# Altium schematic symbol library Analog Devices Amplifiers and Linear Comparators.SchLib: 160 symbols (part 6 of 9)
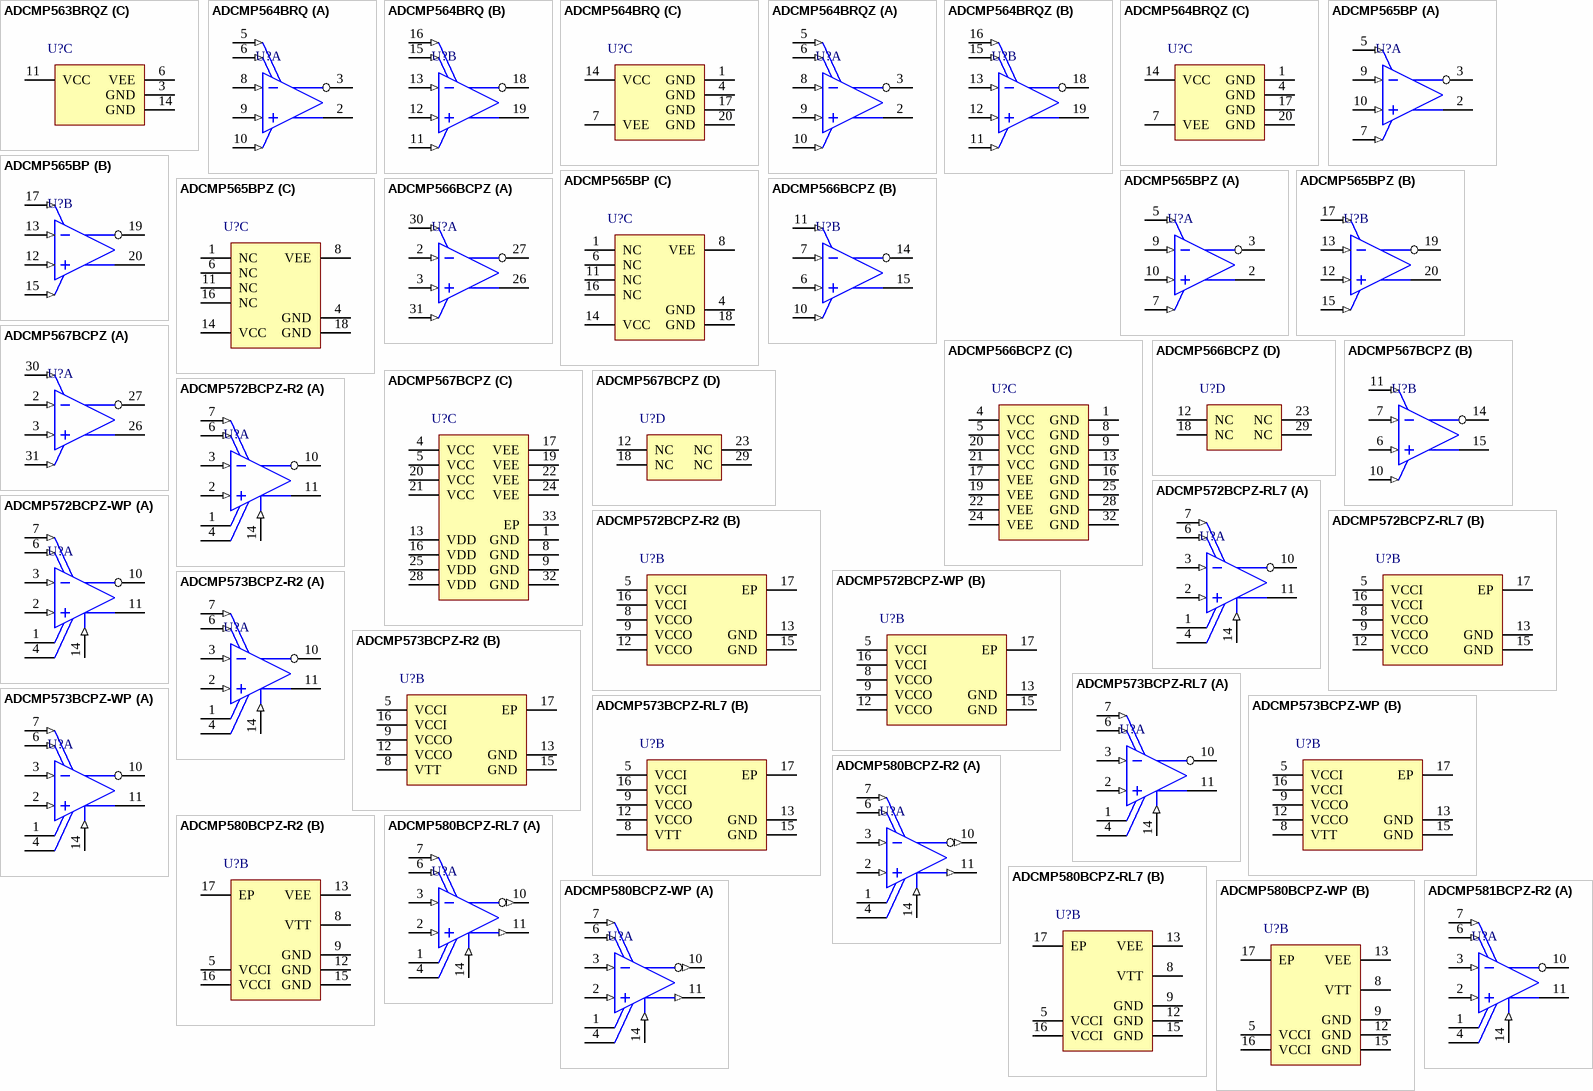
[diagram p12: symbols ADCMP563BRQZ to ADCMP581BCPZ-R2]

## ADCMP573BCPZ-RL7
designator U?
Ultrafast Single-Supply SiGe Comparator, 3.3 to 5 V, 150 ps Delay, Industrial, 16-pin QFN (CP-16-2), Reel; Manufacturer: Analog Devices; PartNumber: ADCMP573BCPZ-RL7; Input Range (V): -0.5 to VCCI+0.5; Supply Current: 3.3, 5; Voltage Supply (V): 3.3 to 5; DatasheetVersion: Rev. A; PackageVersion: Jan-05; PackageReference: CP-16-2; PackageDescription: 16-Pin Lead Frame Chip Scale Package, Body 3 x 3 mm, Pitch 0.5 mm; Supplier 1: Digi-Key; Supplier Part Number 1: ADCMP573BCPZ-RL7-ND; Supplier 2: Mouser; Supplier Part Number 2: 584-ADCMP573BCPZ-R7; Packing: Reel; Mounting Technology: Surface Mount; Code_JEDEC: MO-220-VEED-2; ComponentLink1Description: Manufacturer URL; ComponentLink1URL: http://www.analog.com/en/index.html; ComponentLink2Description: Datasheet; ComponentLink2URL: http://www.analog.com/static/imported-files/data_sheets/ADCMP572_573.pdf; ComponentLink3Description: Package Specification; ComponentLink3URL: http:/www.analog.com/static/imported-files/packages/PKG_PDF/LFCSP(CP)/CP_16_2.pdf; ComponentLink4Description: URL Link1; ComponentLink4URL: Product URL:http://www.analog.com/en/special-linear-functions/comparators/adcmp573/products/product.html
footprint ADI-CP-16-2_N (QFN, 16-Leads, Body 3x3mm, Pitch 0.5mm, Thermal Pad 1.3x1.3mm, IPC Medium Density)
footprint ADI-CP-16-2_L (QFN, 16-Leads, Body 3x3mm, Pitch 0.5mm, Thermal Pad 1.3x1.3mm, IPC High Density)
footprint ADI-CP-16-2_M (QFN, 16-Leads, Body 3x3mm, Pitch 0.5mm, Thermal Pad 1.3x1.3mm, IPC Low Density)
part A pins: 1 VTP "Termination Resistor Return Pin for VP Input.", 2 VP (in) "Noninverting Analog Input.", 3 VN (in) "Inverting Analog Input.", 4 VTN "Termination Resistor Return Pin for VN Input.", 6 ~{LE} (in) "Latch Enable Input Pin, Inverting Side.   In compare mode (L\E\ = low), the output tracks changes at the input of the comparator.   In latch mode (L\E\ = high), the output reflects the input state just prior to the (See Datasheet)", 7 LE (in) "Latch Enable Input Pin, Noninverting Side.   In compare mode (LE = high), the output tracks changes at the input of the comparator.   In latch mode (LE = low), the output reflects the input state just prior to the (See Datasheet)", 10 ~{Q} (oe) "Inverting Output. Q\ is at logic low if the analog voltage at the noninverting input, VP, is greater than the  analog voltage at the inverting input, VN, provided the comparator is in compare mode. See the LE/L\E\ (See Datasheet)", 11 Q (oe) "Noninverting Output. Q is at logic high if the analog voltage at the noninverting input VP is greater  than the analog voltage at the inverting input, VN, provided the comparator is in compare mode.   See the LE/L\E\ (See Datasheet)", 14 HYS (in) "Hysteresis Control Pin. Leave this pin disconnected for zero hysteresis. Connect to GND with a suitably  sized resistor to add the desired amount of hysteresis. Refer to Figure 7 for proper sizing of RHYS hysteresis control (See Datasheet)"
part B pins: 5 VCCI (power) "Positive Supply Voltage for Input Stage.", 8 VTT (power) "Termination Return Pin for the LE/L\E\ Input Pins.For the ADCMP573 (RSPECL output stage), this pin should normally be connected to the VCCO - 2 V termination potential.", 9 VCCO (power) "Positive Supply Voltage for the CML/RSPECL Output Stage.", 12 VCCO (power) "Positive Supply Voltage for the CML/RSPECL Output Stage.", 13 GND (power) "Ground.", 15 GND (power) "Ground.", 16 VCCI (power) "Positive Supply Voltage for Input Stage.", 17 EP "The metallic back surface of the package is not electrically connected to any part of the circuit, and it can be left floating for best electrical isolation between the package handle and the substrate of the die. However, (See Datasheet)"

## ADCMP573BCPZ-WP
designator U?
Ultrafast Single-Supply SiGe Comparator, 3.3 to 5 V, 150 ps Delay, Industrial, 16-pin QFN (CP-16-2), Tray; Manufacturer: Analog Devices; PartNumber: ADCMP573BCPZ-WP; Input Range (V): -0.5 to VCCI+0.5; Supply Current: 3.3, 5; Voltage Supply (V): 3.3 to 5; DatasheetVersion: Rev. A; PackageVersion: Jan-05; PackageReference: CP-16-2; PackageDescription: 16-Pin Lead Frame Chip Scale Package, Body 3 x 3 mm, Pitch 0.5 mm; Supplier 1: Digi-Key; Supplier Part Number 1: ADCMP573BCPZ-WP-ND; Supplier 2: Mouser; Supplier Part Number 2: 584-ADCMP573BCPZ-WP; Packing: Tray; Mounting Technology: Surface Mount; Code_JEDEC: MO-220-VEED-2; ComponentLink1Description: Manufacturer URL; ComponentLink1URL: http://www.analog.com/en/index.html; ComponentLink2Description: Datasheet; ComponentLink2URL: http://www.analog.com/static/imported-files/data_sheets/ADCMP572_573.pdf; ComponentLink3Description: Package Specification; ComponentLink3URL: http:/www.analog.com/static/imported-files/packages/PKG_PDF/LFCSP(CP)/CP_16_2.pdf; ComponentLink4Description: URL Link1; ComponentLink4URL: Product URL:http://www.analog.com/en/special-linear-functions/comparators/adcmp573/products/product.html
footprint ADI-CP-16-2_N (QFN, 16-Leads, Body 3x3mm, Pitch 0.5mm, Thermal Pad 1.3x1.3mm, IPC Medium Density)
footprint ADI-CP-16-2_L (QFN, 16-Leads, Body 3x3mm, Pitch 0.5mm, Thermal Pad 1.3x1.3mm, IPC High Density)
footprint ADI-CP-16-2_M (QFN, 16-Leads, Body 3x3mm, Pitch 0.5mm, Thermal Pad 1.3x1.3mm, IPC Low Density)
part A pins: 1 VTP "Termination Resistor Return Pin for VP Input.", 2 VP (in) "Noninverting Analog Input.", 3 VN (in) "Inverting Analog Input.", 4 VTN "Termination Resistor Return Pin for VN Input.", 6 ~{LE} (in) "Latch Enable Input Pin, Inverting Side.   In compare mode (L\E\ = low), the output tracks changes at the input of the comparator.   In latch mode (L\E\ = high), the output reflects the input state just prior to the (See Datasheet)", 7 LE (in) "Latch Enable Input Pin, Noninverting Side.   In compare mode (LE = high), the output tracks changes at the input of the comparator.   In latch mode (LE = low), the output reflects the input state just prior to the (See Datasheet)", 10 ~{Q} (oe) "Inverting Output. Q\ is at logic low if the analog voltage at the noninverting input, VP, is greater than the  analog voltage at the inverting input, VN, provided the comparator is in compare mode. See the LE/L\E\ (See Datasheet)", 11 Q (oe) "Noninverting Output. Q is at logic high if the analog voltage at the noninverting input VP is greater  than the analog voltage at the inverting input, VN, provided the comparator is in compare mode.   See the LE/L\E\ (See Datasheet)", 14 HYS (in) "Hysteresis Control Pin. Leave this pin disconnected for zero hysteresis. Connect to GND with a suitably  sized resistor to add the desired amount of hysteresis. Refer to Figure 7 for proper sizing of RHYS hysteresis control (See Datasheet)"
part B pins: 5 VCCI (power) "Positive Supply Voltage for Input Stage.", 8 VTT (power) "Termination Return Pin for the LE/L\E\ Input Pins.For the ADCMP573 (RSPECL output stage), this pin should normally be connected to the VCCO - 2 V termination potential.", 9 VCCO (power) "Positive Supply Voltage for the CML/RSPECL Output Stage.", 12 VCCO (power) "Positive Supply Voltage for the CML/RSPECL Output Stage.", 13 GND (power) "Ground.", 15 GND (power) "Ground.", 16 VCCI (power) "Positive Supply Voltage for Input Stage.", 17 EP "The metallic back surface of the package is not electrically connected to any part of the circuit, and it can be left floating for best electrical isolation between the package handle and the substrate of the die. However, (See Datasheet)"

## ADCMP580BCPZ-R2
designator U?
Ultrafast SiGe Voltage Comparator, + / - 5 V, 180 ps Delay, Industrial, 16-pin QFN (CP-16-3), Reel; Manufacturer: Analog Devices; PartNumber: ADCMP580BCPZ-R2; Input Range (V): -2 to 3; Voltage Supply (V): 5 to -5; DatasheetVersion: Rev. A; PackageReference: CP-16-3; PackageDescription: 16-Pin Lead Frame Chip Scale Package, Body 3 x 3 mm, Pitch 0.5 mm; Supplier 1: Digi-Key; Supplier Part Number 1: ADCMP580BCPZ-R2-ND; Supplier 2: Mouser; Supplier Part Number 2: 584-ADCMP580BCPZ-R2; Packing: Reel; Mounting Technology: Surface Mount; Code_JEDEC: MO-220-VEED-2; ComponentLink1Description: Manufacturer URL; ComponentLink1URL: http://www.analog.com/en/index.html; ComponentLink2Description: Datasheet; ComponentLink2URL: http://www.analog.com/static/imported-files/data_sheets/ADCMP580_581_582.pdf; ComponentLink3Description: Package Specification; ComponentLink3URL: http://www.analog.com/static/imported-files/packages/PKG_PDF/LFCSP(CP)/CP_16_3.pdf; ComponentLink4Description: URL Link1; ComponentLink4URL: Product URL:http://www.analog.com/en/special-linear-functions/comparators/adcmp580/products/product.html
footprint ADI-CP-16-3_N (QFN, 16-Leads, Body 3x3mm, Pitch 0.5mm, Thermal Pad 1.5x1.5mm, IPC Medium Density)
footprint ADI-CP-16-3_L (QFN, 16-Leads, Body 3x3mm, Pitch 0.5mm, Thermal Pad 1.5x1.5mm, IPC High Density)
footprint ADI-CP-16-3_M (QFN, 16-Leads, Body 3x3mm, Pitch 0.5mm, Thermal Pad 1.5x1.5mm, IPC Low Density)
part A pins: 1 VTP "Termination Resistor Return Pin for VP Input.", 2 VP (in) "Noninverting Analog Input.", 3 VN (in) "Inverting Analog Input.", 4 VTN "Termination Resistor Return Pin for VN Input.", 6 ~{LE} (in) "Latch Enable Input Pin, Inverting Side. In compare mode (L\E\ = low), the output tracks changes at the input of the comparator. In latch mode (L\E\ = high), the output reflects the input state just prior to the comparator (See Datasheet)", 7 LE (in) "Latch Enable Input Pin, Noninverting Side. In compare mode (LE = high), the output tracks changes at the input of the comparator. In latch mode (LE = low), the output reflects the input state just prior to the comparator (See Datasheet)", 10 ~{Q} (out) "Inverting Output. Q\ is logic low if the analog voltage at the noninverting input, VP, is greater than the analog voltage at the inverting input, VN, provided that the comparator is in compare mode. See the LE/L\E\ (See Datasheet)", 11 Q (out) "Noninverting Output. Q is logic high if the analog voltage at the noninverting input, VP, is greater than the analog voltage at the inverting input, VN, provided that the comparator is in compare mode. See the LE/L\E\ (See Datasheet)", 14 HYS (in) "Hysteresis Control. Leave this pin disconnected for zero hysteresis. Connect this pin to the VEE supply with a suitably sized resistor to add the desired amount of hysteresis. Refer to Figure 9 for proper sizing of the HYS (See Datasheet)"
part B pins: 5 VCCI (power) "Positive Supply Voltage.", 8 VTT (power) "Termination Return Pin for the LE/L\E\ Input Pins. For the ADCMP580 (CML output stage), this pin should be connected to the GND ground.", 9 GND (power) "Digital Ground Pin. For the ADCMP580/ADCMP581, this pin should be connected to the GND pin.", 12 GND (power) "Digital Ground Pin. For the ADCMP580/ADCMP581, this pin should be connected to the GND pin.", 13 VEE (power) "Negative Power Supply.", 15 GND (power) "Analog Ground.", 16 VCCI (power) "Positive Supply Voltage.", 17 EP "The metallic back surface of the package is not electrically connected to any part of the circuit. It can be left floating for optimal electrical isolation between the package handle and the substrate of the die. It can also (See Datasheet)"

## ADCMP580BCPZ-RL7
designator U?
Ultrafast SiGe Voltage Comparator, + / - 5 V, 180 ps Delay, Industrial, 16-pin QFN (CP-16-3), Reel; Manufacturer: Analog Devices; PartNumber: ADCMP580BCPZ-RL7; Input Range (V): -2 to 3; Voltage Supply (V): 5 to -5; DatasheetVersion: Rev. A; PackageReference: CP-16-3; PackageDescription: 16-Pin Lead Frame Chip Scale Package, Body 3 x 3 mm, Pitch 0.5 mm; Supplier 1: Digi-Key; Supplier Part Number 1: ADCMP580BCPZ-RL7-ND; Supplier 2: Mouser; Supplier Part Number 2: 584-ADCMP580BCPZ-R7; Packing: Reel; Mounting Technology: Surface Mount; Code_JEDEC: MO-220-VEED-2; ComponentLink1Description: Manufacturer URL; ComponentLink1URL: http://www.analog.com/en/index.html; ComponentLink2Description: Datasheet; ComponentLink2URL: http://www.analog.com/static/imported-files/data_sheets/ADCMP580_581_582.pdf; ComponentLink3Description: Package Specification; ComponentLink3URL: http://www.analog.com/static/imported-files/packages/PKG_PDF/LFCSP(CP)/CP_16_3.pdf; ComponentLink4Description: URL Link1; ComponentLink4URL: Product URL:http://www.analog.com/en/special-linear-functions/comparators/adcmp580/products/product.html
footprint ADI-CP-16-3_N (QFN, 16-Leads, Body 3x3mm, Pitch 0.5mm, Thermal Pad 1.5x1.5mm, IPC Medium Density)
footprint ADI-CP-16-3_L (QFN, 16-Leads, Body 3x3mm, Pitch 0.5mm, Thermal Pad 1.5x1.5mm, IPC High Density)
footprint ADI-CP-16-3_M (QFN, 16-Leads, Body 3x3mm, Pitch 0.5mm, Thermal Pad 1.5x1.5mm, IPC Low Density)
part A pins: 1 VTP "Termination Resistor Return Pin for VP Input.", 2 VP (in) "Noninverting Analog Input.", 3 VN (in) "Inverting Analog Input.", 4 VTN "Termination Resistor Return Pin for VN Input.", 6 ~{LE} (in) "Latch Enable Input Pin, Inverting Side. In compare mode (L\E\ = low), the output tracks changes at the input of the comparator. In latch mode (L\E\ = high), the output reflects the input state just prior to the comparator (See Datasheet)", 7 LE (in) "Latch Enable Input Pin, Noninverting Side. In compare mode (LE = high), the output tracks changes at the input of the comparator. In latch mode (LE = low), the output reflects the input state just prior to the comparator (See Datasheet)", 10 ~{Q} (out) "Inverting Output. Q\ is logic low if the analog voltage at the noninverting input, VP, is greater than the analog voltage at the inverting input, VN, provided that the comparator is in compare mode. See the LE/L\E\ (See Datasheet)", 11 Q (out) "Noninverting Output. Q is logic high if the analog voltage at the noninverting input, VP, is greater than the analog voltage at the inverting input, VN, provided that the comparator is in compare mode. See the LE/L\E\ (See Datasheet)", 14 HYS (in) "Hysteresis Control. Leave this pin disconnected for zero hysteresis. Connect this pin to the VEE supply with a suitably sized resistor to add the desired amount of hysteresis. Refer to Figure 9 for proper sizing of the HYS (See Datasheet)"
part B pins: 5 VCCI (power) "Positive Supply Voltage.", 8 VTT (power) "Termination Return Pin for the LE/L\E\ Input Pins. For the ADCMP580 (CML output stage), this pin should be connected to the GND ground.", 9 GND (power) "Digital Ground Pin. For the ADCMP580/ADCMP581, this pin should be connected to the GND pin.", 12 GND (power) "Digital Ground Pin. For the ADCMP580/ADCMP581, this pin should be connected to the GND pin.", 13 VEE (power) "Negative Power Supply.", 15 GND (power) "Analog Ground.", 16 VCCI (power) "Positive Supply Voltage.", 17 EP "The metallic back surface of the package is not electrically connected to any part of the circuit. It can be left floating for optimal electrical isolation between the package handle and the substrate of the die. It can also (See Datasheet)"

## ADCMP580BCPZ-WP
designator U?
Ultrafast SiGe Voltage Comparator, + / - 5 V, 180 ps Delay, Industrial, 16-pin QFN (CP-16-3), Tray; Manufacturer: Analog Devices; PartNumber: ADCMP580BCPZ-WP; Input Range (V): -2 to 3; Voltage Supply (V): 5 to -5; DatasheetVersion: Rev. A; PackageReference: CP-16-3; PackageDescription: 16-Pin Lead Frame Chip Scale Package, Body 3 x 3 mm, Pitch 0.5 mm; Supplier 1: Digi-Key; Supplier Part Number 1: ADCMP580BCPZ-WP-ND; Supplier 2: Farnell; Supplier Part Number 2: 2312715; Supplier 3: Mouser; Supplier Part Number 3: 584-ADCMP580BCPZ-WP; Packing: Tray; Mounting Technology: Surface Mount; Code_JEDEC: MO-220-VEED-2; ComponentLink1Description: Manufacturer URL; ComponentLink1URL: http://www.analog.com/en/index.html; ComponentLink2Description: Datasheet; ComponentLink2URL: http://www.analog.com/static/imported-files/data_sheets/ADCMP580_581_582.pdf; ComponentLink3Description: Package Specification; ComponentLink3URL: http://www.analog.com/static/imported-files/packages/PKG_PDF/LFCSP(CP)/CP_16_3.pdf; ComponentLink4Description: URL Link1; ComponentLink4URL: Product URL:http://www.analog.com/en/special-linear-functions/comparators/adcmp580/products/product.html
footprint ADI-CP-16-3_N (QFN, 16-Leads, Body 3x3mm, Pitch 0.5mm, Thermal Pad 1.5x1.5mm, IPC Medium Density)
footprint ADI-CP-16-3_L (QFN, 16-Leads, Body 3x3mm, Pitch 0.5mm, Thermal Pad 1.5x1.5mm, IPC High Density)
footprint ADI-CP-16-3_M (QFN, 16-Leads, Body 3x3mm, Pitch 0.5mm, Thermal Pad 1.5x1.5mm, IPC Low Density)
part A pins: 1 VTP "Termination Resistor Return Pin for VP Input.", 2 VP (in) "Noninverting Analog Input.", 3 VN (in) "Inverting Analog Input.", 4 VTN "Termination Resistor Return Pin for VN Input.", 6 ~{LE} (in) "Latch Enable Input Pin, Inverting Side. In compare mode (L\E\ = low), the output tracks changes at the input of the comparator. In latch mode (L\E\ = high), the output reflects the input state just prior to the comparator (See Datasheet)", 7 LE (in) "Latch Enable Input Pin, Noninverting Side. In compare mode (LE = high), the output tracks changes at the input of the comparator. In latch mode (LE = low), the output reflects the input state just prior to the comparator (See Datasheet)", 10 ~{Q} (out) "Inverting Output. Q\ is logic low if the analog voltage at the noninverting input, VP, is greater than the analog voltage at the inverting input, VN, provided that the comparator is in compare mode. See the LE/L\E\ (See Datasheet)", 11 Q (out) "Noninverting Output. Q is logic high if the analog voltage at the noninverting input, VP, is greater than the analog voltage at the inverting input, VN, provided that the comparator is in compare mode. See the LE/L\E\ (See Datasheet)", 14 HYS (in) "Hysteresis Control. Leave this pin disconnected for zero hysteresis. Connect this pin to the VEE supply with a suitably sized resistor to add the desired amount of hysteresis. Refer to Figure 9 for proper sizing of the HYS (See Datasheet)"
part B pins: 5 VCCI (power) "Positive Supply Voltage.", 8 VTT (power) "Termination Return Pin for the LE/L\E\ Input Pins. For the ADCMP580 (CML output stage), this pin should be connected to the GND ground.", 9 GND (power) "Digital Ground Pin. For the ADCMP580/ADCMP581, this pin should be connected to the GND pin.", 12 GND (power) "Digital Ground Pin. For the ADCMP580/ADCMP581, this pin should be connected to the GND pin.", 13 VEE (power) "Negative Power Supply.", 15 GND (power) "Analog Ground.", 16 VCCI (power) "Positive Supply Voltage.", 17 EP "The metallic back surface of the package is not electrically connected to any part of the circuit. It can be left floating for optimal electrical isolation between the package handle and the substrate of the die. It can also (See Datasheet)"

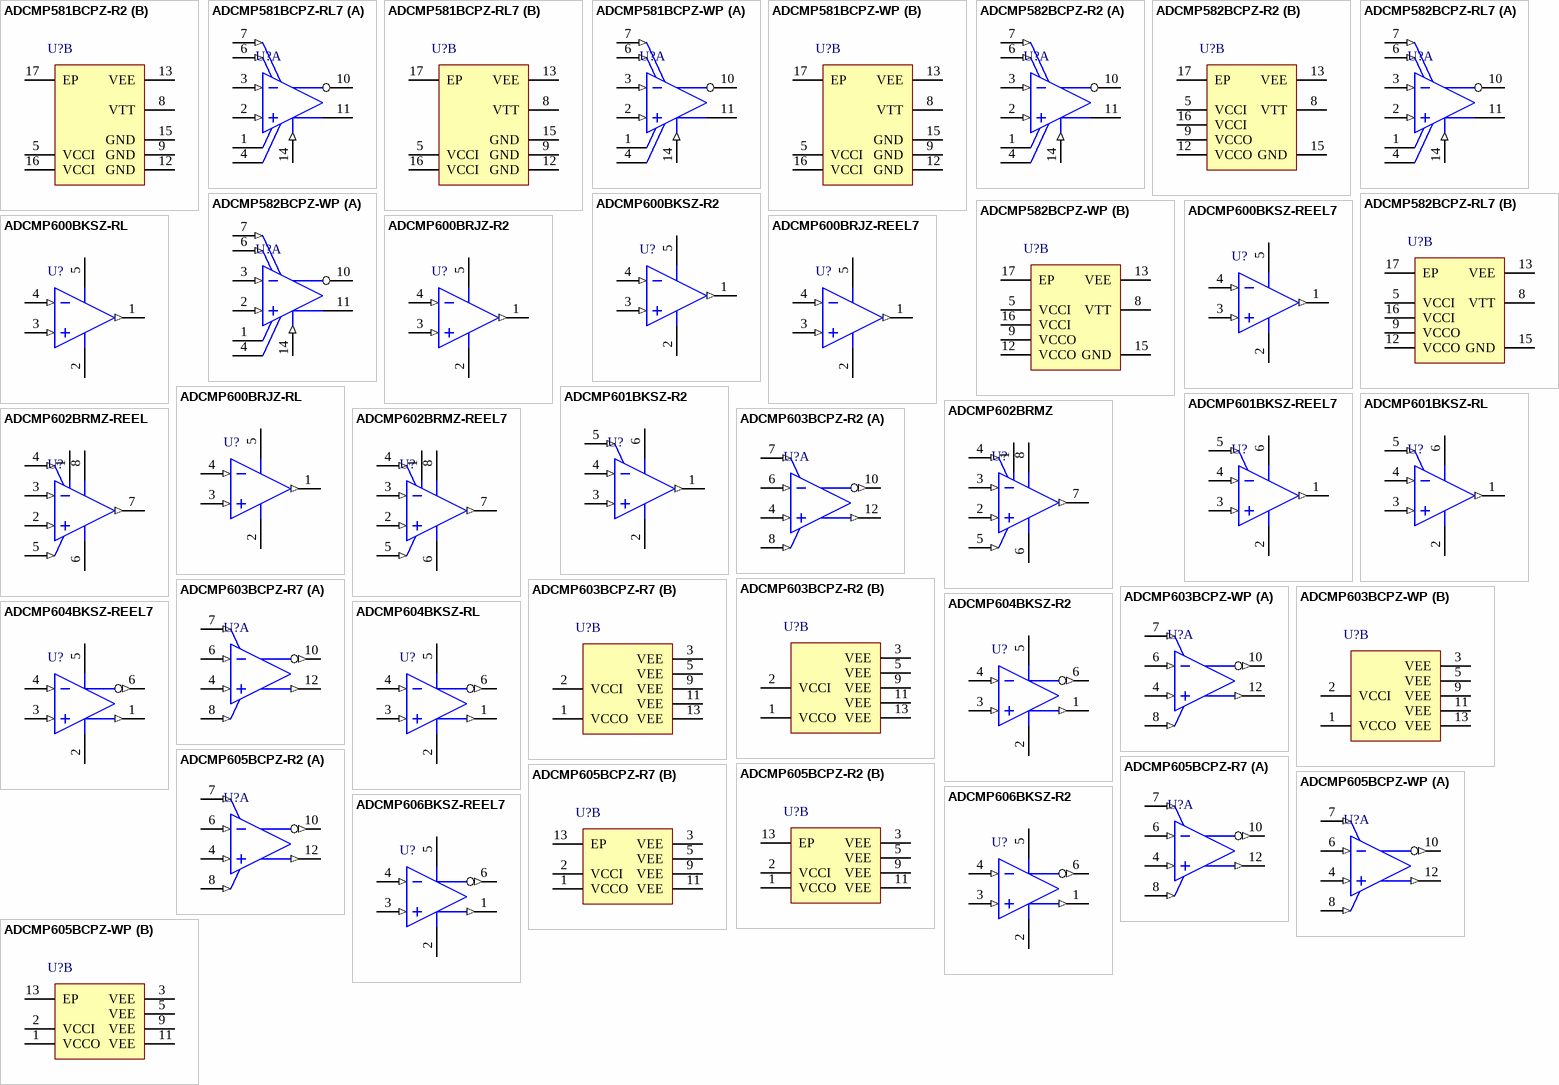
[diagram p5: symbols ADCMP581BCPZ-R2 to ADCMP606BKSZ-REEL7]

## ADCMP581BCPZ-R2
designator U?
Ultrafast SiGe Voltage Comparator, + / - 5 V, 180 ps Delay, Industrial, 16-pin QFN (CP-16-3), Reel; Manufacturer: Analog Devices; PartNumber: ADCMP581BCPZ-R2; Input Range (V): -2 to 3; Voltage Supply (V): 5 to -5; DatasheetVersion: Rev. A; PackageReference: CP-16-3; PackageDescription: 16-Pin Lead Frame Chip Scale Package, Body 3 x 3 mm, Pitch 0.5 mm; Supplier 1: Digi-Key; Supplier Part Number 1: ADCMP581BCPZ-R2-ND; Supplier 2: Mouser; Supplier Part Number 2: 584-ADCMP581BCPZ-R2; Packing: Reel; Mounting Technology: Surface Mount; Code_JEDEC: MO-220-VEED-2; ComponentLink1Description: Manufacturer URL; ComponentLink1URL: http://www.analog.com/en/index.html; ComponentLink2Description: Datasheet; ComponentLink2URL: http://www.analog.com/static/imported-files/data_sheets/ADCMP580_581_582.pdf; ComponentLink3Description: Package Specification; ComponentLink3URL: http://www.analog.com/static/imported-files/packages/PKG_PDF/LFCSP(CP)/CP_16_3.pdf; ComponentLink4Description: URL Link1; ComponentLink4URL: Product URL:http://www.analog.com/en/special-linear-functions/comparators/adcmp581/products/product.html
footprint ADI-CP-16-3_N (QFN, 16-Leads, Body 3x3mm, Pitch 0.5mm, Thermal Pad 1.5x1.5mm, IPC Medium Density)
footprint ADI-CP-16-3_L (QFN, 16-Leads, Body 3x3mm, Pitch 0.5mm, Thermal Pad 1.5x1.5mm, IPC High Density)
footprint ADI-CP-16-3_M (QFN, 16-Leads, Body 3x3mm, Pitch 0.5mm, Thermal Pad 1.5x1.5mm, IPC Low Density)
part A pins: 1 VTP "Termination Resistor Return Pin for VP Input.", 2 VP (in) "Noninverting Analog Input.", 3 VN (in) "Inverting Analog Input.", 4 VTN "Termination Resistor Return Pin for VN Input.", 6 ~{LE} (in) "Latch Enable Input Pin, Inverting Side. In compare mode (L\E\ = low), the output tracks changes at the input of the comparator. In latch mode (L\E\ = high), the output reflects the input state just prior to the comparator (See Datasheet)", 7 LE (in) "Latch Enable Input Pin, Noninverting Side. In compare mode (LE = high), the output tracks changes at the input of the comparator. In latch mode (LE = low), the output reflects the input state just prior to the comparator (See Datasheet)", 10 ~{Q} (oe) "Inverting Output. Q\ is logic low if the analog voltage at the noninverting input, VP, is greater than the analog voltage at the inverting input, VN, provided that the comparator is in compare mode. See the LE/L\E\ (See Datasheet)", 11 Q (oe) "Noninverting Output. Q is logic high if the analog voltage at the noninverting input, VP, is greater than the analog voltage at the inverting input, VN, provided that the comparator is in compare mode. See the LE/L\E\ (See Datasheet)", 14 HYS (in) "Hysteresis Control. Leave this pin disconnected for zero hysteresis. Connect this pin to the VEE supply with a suitably sized resistor to add the desired amount of hysteresis. Refer to Figure 9 for proper sizing of the HYS (See Datasheet)"
part B pins: 5 VCCI (power) "Positive Supply Voltage.", 8 VTT (power) "Termination Return Pin for the LE/L\E\ Input Pins.For the ADCMP581 (ECL output stage), this pin should be connected to the -2 V termination potential.", 9 GND (power) "Digital Ground Pin/Positive Logic Power Supply Terminal. For the ADCMP580/ADCMP581, this pin should be connected to the GND pin.", 12 GND (power) "Digital Ground Pin/Positive Logic Power Supply Terminal. For the ADCMP580/ADCMP581, this pin should be connected to the GND pin.", 13 VEE (power) "Negative Power Supply.", 15 GND (power) "Analog Ground.", 16 VCCI (power) "Positive Supply Voltage.", 17 EP "The metallic back surface of the package is not electrically connected to any part of the circuit. It can be left floating for optimal electrical isolation between the package handle and the substrate of the die. It can also (See Datasheet)"

## ADCMP581BCPZ-RL7
designator U?
Ultrafast SiGe Voltage Comparator, + / - 5 V, 180 ps Delay, Industrial, 16-pin QFN (CP-16-3), Reel; Manufacturer: Analog Devices; PartNumber: ADCMP581BCPZ-RL7; Input Range (V): -2 to 3; Voltage Supply (V): 5 to -5; DatasheetVersion: Rev. A; PackageReference: CP-16-3; PackageDescription: 16-Pin Lead Frame Chip Scale Package, Body 3 x 3 mm, Pitch 0.5 mm; Supplier 1: Digi-Key; Supplier Part Number 1: ADCMP581BCPZ-RL7-ND; Supplier 2: Mouser; Supplier Part Number 2: 584-ADCMP581BCPZ-R7; Packing: Reel; Mounting Technology: Surface Mount; Code_JEDEC: MO-220-VEED-2; ComponentLink1Description: Manufacturer URL; ComponentLink1URL: http://www.analog.com/en/index.html; ComponentLink2Description: Datasheet; ComponentLink2URL: http://www.analog.com/static/imported-files/data_sheets/ADCMP580_581_582.pdf; ComponentLink3Description: Package Specification; ComponentLink3URL: http://www.analog.com/static/imported-files/packages/PKG_PDF/LFCSP(CP)/CP_16_3.pdf; ComponentLink4Description: URL Link1; ComponentLink4URL: Product URL:http://www.analog.com/en/special-linear-functions/comparators/adcmp581/products/product.html
footprint ADI-CP-16-3_N (QFN, 16-Leads, Body 3x3mm, Pitch 0.5mm, Thermal Pad 1.5x1.5mm, IPC Medium Density)
footprint ADI-CP-16-3_L (QFN, 16-Leads, Body 3x3mm, Pitch 0.5mm, Thermal Pad 1.5x1.5mm, IPC High Density)
footprint ADI-CP-16-3_M (QFN, 16-Leads, Body 3x3mm, Pitch 0.5mm, Thermal Pad 1.5x1.5mm, IPC Low Density)
part A pins: 1 VTP "Termination Resistor Return Pin for VP Input.", 2 VP (in) "Noninverting Analog Input.", 3 VN (in) "Inverting Analog Input.", 4 VTN "Termination Resistor Return Pin for VN Input.", 6 ~{LE} (in) "Latch Enable Input Pin, Inverting Side. In compare mode (L\E\ = low), the output tracks changes at the input of the comparator. In latch mode (L\E\ = high), the output reflects the input state just prior to the comparator (See Datasheet)", 7 LE (in) "Latch Enable Input Pin, Noninverting Side. In compare mode (LE = high), the output tracks changes at the input of the comparator. In latch mode (LE = low), the output reflects the input state just prior to the comparator (See Datasheet)", 10 ~{Q} (oe) "Inverting Output. Q\ is logic low if the analog voltage at the noninverting input, VP, is greater than the analog voltage at the inverting input, VN, provided that the comparator is in compare mode. See the LE/L\E\ (See Datasheet)", 11 Q (oe) "Noninverting Output. Q is logic high if the analog voltage at the noninverting input, VP, is greater than the analog voltage at the inverting input, VN, provided that the comparator is in compare mode. See the LE/L\E\ (See Datasheet)", 14 HYS (in) "Hysteresis Control. Leave this pin disconnected for zero hysteresis. Connect this pin to the VEE supply with a suitably sized resistor to add the desired amount of hysteresis. Refer to Figure 9 for proper sizing of the HYS (See Datasheet)"
part B pins: 5 VCCI (power) "Positive Supply Voltage.", 8 VTT (power) "Termination Return Pin for the LE/L\E\ Input Pins.For the ADCMP581 (ECL output stage), this pin should be connected to the -2 V termination potential.", 9 GND (power) "Digital Ground Pin/Positive Logic Power Supply Terminal. For the ADCMP580/ADCMP581, this pin should be connected to the GND pin.", 12 GND (power) "Digital Ground Pin/Positive Logic Power Supply Terminal. For the ADCMP580/ADCMP581, this pin should be connected to the GND pin.", 13 VEE (power) "Negative Power Supply.", 15 GND (power) "Analog Ground.", 16 VCCI (power) "Positive Supply Voltage.", 17 EP "The metallic back surface of the package is not electrically connected to any part of the circuit. It can be left floating for optimal electrical isolation between the package handle and the substrate of the die. It can also (See Datasheet)"

## ADCMP581BCPZ-WP
designator U?
Ultrafast SiGe Voltage Comparator, + / - 5 V, 180 ps Delay, Industrial, 16-pin QFN (CP-16-3), Tray; Manufacturer: Analog Devices; PartNumber: ADCMP581BCPZ-WP; Input Range (V): -2 to 3; Voltage Supply (V): 5 to -5; DatasheetVersion: Rev. A; PackageReference: CP-16-3; PackageDescription: 16-Pin Lead Frame Chip Scale Package, Body 3 x 3 mm, Pitch 0.5 mm; Supplier 1: Digi-Key; Supplier Part Number 1: ADCMP581BCPZ-WP-ND; Supplier 2: Mouser; Supplier Part Number 2: 584-ADCMP581BCPZ-WP; Packing: Tray; Mounting Technology: Surface Mount; Code_JEDEC: MO-220-VEED-2; ComponentLink1Description: Manufacturer URL; ComponentLink1URL: http://www.analog.com/en/index.html; ComponentLink2Description: Datasheet; ComponentLink2URL: http://www.analog.com/static/imported-files/data_sheets/ADCMP580_581_582.pdf; ComponentLink3Description: Package Specification; ComponentLink3URL: http://www.analog.com/static/imported-files/packages/PKG_PDF/LFCSP(CP)/CP_16_3.pdf; ComponentLink4Description: URL Link1; ComponentLink4URL: Product URL:http://www.analog.com/en/special-linear-functions/comparators/adcmp581/products/product.html
footprint ADI-CP-16-3_N (QFN, 16-Leads, Body 3x3mm, Pitch 0.5mm, Thermal Pad 1.5x1.5mm, IPC Medium Density)
footprint ADI-CP-16-3_L (QFN, 16-Leads, Body 3x3mm, Pitch 0.5mm, Thermal Pad 1.5x1.5mm, IPC High Density)
footprint ADI-CP-16-3_M (QFN, 16-Leads, Body 3x3mm, Pitch 0.5mm, Thermal Pad 1.5x1.5mm, IPC Low Density)
part A pins: 1 VTP "Termination Resistor Return Pin for VP Input.", 2 VP (in) "Noninverting Analog Input.", 3 VN (in) "Inverting Analog Input.", 4 VTN "Termination Resistor Return Pin for VN Input.", 6 ~{LE} (in) "Latch Enable Input Pin, Inverting Side. In compare mode (L\E\ = low), the output tracks changes at the input of the comparator. In latch mode (L\E\ = high), the output reflects the input state just prior to the comparator (See Datasheet)", 7 LE (in) "Latch Enable Input Pin, Noninverting Side. In compare mode (LE = high), the output tracks changes at the input of the comparator. In latch mode (LE = low), the output reflects the input state just prior to the comparator (See Datasheet)", 10 ~{Q} (oe) "Inverting Output. Q\ is logic low if the analog voltage at the noninverting input, VP, is greater than the analog voltage at the inverting input, VN, provided that the comparator is in compare mode. See the LE/L\E\ (See Datasheet)", 11 Q (oe) "Noninverting Output. Q is logic high if the analog voltage at the noninverting input, VP, is greater than the analog voltage at the inverting input, VN, provided that the comparator is in compare mode. See the LE/L\E\ (See Datasheet)", 14 HYS (in) "Hysteresis Control. Leave this pin disconnected for zero hysteresis. Connect this pin to the VEE supply with a suitably sized resistor to add the desired amount of hysteresis. Refer to Figure 9 for proper sizing of the HYS (See Datasheet)"
part B pins: 5 VCCI (power) "Positive Supply Voltage.", 8 VTT (power) "Termination Return Pin for the LE/L\E\ Input Pins.For the ADCMP581 (ECL output stage), this pin should be connected to the -2 V termination potential.", 9 GND (power) "Digital Ground Pin/Positive Logic Power Supply Terminal. For the ADCMP580/ADCMP581, this pin should be connected to the GND pin.", 12 GND (power) "Digital Ground Pin/Positive Logic Power Supply Terminal. For the ADCMP580/ADCMP581, this pin should be connected to the GND pin.", 13 VEE (power) "Negative Power Supply.", 15 GND (power) "Analog Ground.", 16 VCCI (power) "Positive Supply Voltage.", 17 EP "The metallic back surface of the package is not electrically connected to any part of the circuit. It can be left floating for optimal electrical isolation between the package handle and the substrate of the die. It can also (See Datasheet)"

## ADCMP582BCPZ-R2
designator U?
Ultrafast SiGe Voltage Comparator, + / - 5 V, 180 ps Delay, Industrial, 16-pin QFN (CP-16-3), Reel; Manufacturer: Analog Devices; PartNumber: ADCMP582BCPZ-R2; Input Range (V): -2 to 3; Voltage Supply (V): 5 to -5; DatasheetVersion: Rev. A; PackageReference: CP-16-3; PackageDescription: 16-Pin Lead Frame Chip Scale Package, Body 3 x 3 mm, Pitch 0.5 mm; Supplier 1: Digi-Key; Supplier Part Number 1: ADCMP582BCPZ-R2TR-ND; Supplier 2: Digi-Key; Supplier Part Number 2: ADCMP582BCPZ-R2CT-ND; Supplier 3: Digi-Key; Supplier Part Number 3: ADCMP582BCPZ-R2DKR-ND; Supplier 4: Farnell; Supplier Part Number 4: 2312829; Supplier 5: Mouser; Supplier Part Number 5: 584-ADCMP582BCPZ-R2; Packing: Reel; Mounting Technology: Surface Mount; Code_JEDEC: MO-220-VEED-2; ComponentLink1Description: Manufacturer URL; ComponentLink1URL: http://www.analog.com/en/index.html; ComponentLink2Description: Datasheet; ComponentLink2URL: http://www.analog.com/static/imported-files/data_sheets/ADCMP580_581_582.pdf; ComponentLink3Description: Package Specification; ComponentLink3URL: http://www.analog.com/static/imported-files/packages/PKG_PDF/LFCSP(CP)/CP_16_3.pdf; ComponentLink4Description: URL Link1; ComponentLink4URL: Product URL:http://www.analog.com/en/special-linear-functions/comparators/adcmp582/products/product.html
footprint ADI-CP-16-3_N (QFN, 16-Leads, Body 3x3mm, Pitch 0.5mm, Thermal Pad 1.5x1.5mm, IPC Medium Density)
footprint ADI-CP-16-3_L (QFN, 16-Leads, Body 3x3mm, Pitch 0.5mm, Thermal Pad 1.5x1.5mm, IPC High Density)
footprint ADI-CP-16-3_M (QFN, 16-Leads, Body 3x3mm, Pitch 0.5mm, Thermal Pad 1.5x1.5mm, IPC Low Density)
footprint ADI-CP-16-2_L (QFN, 16-Leads, Body 3x3mm, Pitch 0.5mm, Thermal Pad 1.3x1.3mm, IPC High Density)
footprint ADI-CP-16-2_M (QFN, 16-Leads, Body 3x3mm, Pitch 0.5mm, Thermal Pad 1.3x1.3mm, IPC Low Density)
footprint ADI-CP-16-2_N (QFN, 16-Leads, Body 3x3mm, Pitch 0.5mm, Thermal Pad 1.3x1.3mm, IPC Medium Density)
part A pins: 1 VTP, 2 VP (in), 3 VN (in), 4 VTN, 6 ~{LE} (in), 7 LE (in), 10 ~{Q} (oe), 11 Q (oe), 14 HYS (in)
part B pins: 5 VCCI (power) "Positive Supply Voltage.", 8 VTT (power) "Termination Return Pin for the LE/L\E\ Input Pins. For the ADCMP582 (PECL output stage), this pin should be connected to the VCCO -2 V termination potential.", 9 VCCO (power) "Digital Ground Pin/Positive Logic Power Supply Terminal. For the ADCMP582, this pin should be connected to the positive logic power VCCO supply.", 12 VCCO (power) "Digital Ground Pin/Positive Logic Power Supply Terminal. For the ADCMP582, this pin should be connected to the positive logic power VCCO supply.", 13 VEE (power) "Negative Power Supply.", 15 GND (power) "Analog Ground.", 16 VCCI (power) "Positive Supply Voltage.", 17 EP "The metallic back surface of the package is not electrically connected to any part of the circuit. It can be left floating for optimal electrical isolation between the package handle and the substrate of the die. It can also (See Datasheet)"

## ADCMP582BCPZ-RL7
designator U?
Ultrafast SiGe Voltage Comparator, + / - 5 V, 180 ps Delay, Industrial, 16-pin QFN (CP-16-3), Reel; Manufacturer: Analog Devices; PartNumber: ADCMP582BCPZ-RL7; Input Range (V): -2 to 3; Voltage Supply (V): 5 to -5; DatasheetVersion: Rev. A; PackageReference: CP-16-3; PackageDescription: 16-Pin Lead Frame Chip Scale Package, Body 3 x 3 mm, Pitch 0.5 mm; Supplier 1: Digi-Key; Supplier Part Number 1: ADCMP582BCPZ-RL7-ND; Supplier 2: Mouser; Supplier Part Number 2: 584-ADCMP582BCPZ-R7; Packing: Reel; Mounting Technology: Surface Mount; Code_JEDEC: MO-220-VEED-2; ComponentLink1Description: Manufacturer URL; ComponentLink1URL: http://www.analog.com/en/index.html; ComponentLink2Description: Datasheet; ComponentLink2URL: http://www.analog.com/static/imported-files/data_sheets/ADCMP580_581_582.pdf; ComponentLink3Description: Package Specification; ComponentLink3URL: http://www.analog.com/static/imported-files/packages/PKG_PDF/LFCSP(CP)/CP_16_3.pdf; ComponentLink4Description: URL Link1; ComponentLink4URL: Product URL:http://www.analog.com/en/special-linear-functions/comparators/adcmp582/products/product.html
footprint ADI-CP-16-3_N (QFN, 16-Leads, Body 3x3mm, Pitch 0.5mm, Thermal Pad 1.5x1.5mm, IPC Medium Density)
footprint ADI-CP-16-3_L (QFN, 16-Leads, Body 3x3mm, Pitch 0.5mm, Thermal Pad 1.5x1.5mm, IPC High Density)
footprint ADI-CP-16-3_M (QFN, 16-Leads, Body 3x3mm, Pitch 0.5mm, Thermal Pad 1.5x1.5mm, IPC Low Density)
footprint ADI-CP-16-2_L (QFN, 16-Leads, Body 3x3mm, Pitch 0.5mm, Thermal Pad 1.3x1.3mm, IPC High Density)
footprint ADI-CP-16-2_M (QFN, 16-Leads, Body 3x3mm, Pitch 0.5mm, Thermal Pad 1.3x1.3mm, IPC Low Density)
footprint ADI-CP-16-2_N (QFN, 16-Leads, Body 3x3mm, Pitch 0.5mm, Thermal Pad 1.3x1.3mm, IPC Medium Density)
part A pins: 1 VTP, 2 VP (in), 3 VN (in), 4 VTN, 6 ~{LE} (in), 7 LE (in), 10 ~{Q} (oe), 11 Q (oe), 14 HYS (in)
part B pins: 5 VCCI (power) "Positive Supply Voltage.", 8 VTT (power) "Termination Return Pin for the LE/L\E\ Input Pins. For the ADCMP582 (PECL output stage), this pin should be connected to the VCCO -2 V termination potential.", 9 VCCO (power) "Digital Ground Pin/Positive Logic Power Supply Terminal. For the ADCMP582, this pin should be connected to the positive logic power VCCO supply.", 12 VCCO (power) "Digital Ground Pin/Positive Logic Power Supply Terminal. For the ADCMP582, this pin should be connected to the positive logic power VCCO supply.", 13 VEE (power) "Negative Power Supply.", 15 GND (power) "Analog Ground.", 16 VCCI (power) "Positive Supply Voltage.", 17 EP "The metallic back surface of the package is not electrically connected to any part of the circuit. It can be left floating for optimal electrical isolation between the package handle and the substrate of the die. It can also (See Datasheet)"

## ADCMP582BCPZ-WP
designator U?
Ultrafast SiGe Voltage Comparator, + / - 5 V, 180 ps Delay, Industrial, 16-pin QFN (CP-16-3), Tray; Manufacturer: Analog Devices; PartNumber: ADCMP582BCPZ-WP; Input Range (V): -2 to 3; Voltage Supply (V): 5 to -5; DatasheetVersion: Rev. A; PackageReference: CP-16-3; PackageDescription: 16-Pin Lead Frame Chip Scale Package, Body 3 x 3 mm, Pitch 0.5 mm; Supplier 1: Digi-Key; Supplier Part Number 1: ADCMP582BCPZ-WP-ND; Supplier 2: Farnell; Supplier Part Number 2: 2376815; Supplier 3: Mouser; Supplier Part Number 3: 584-ADCMP582BCPZ-WP; Packing: Tray; Mounting Technology: Surface Mount; Code_JEDEC: MO-220-VEED-2; ComponentLink1Description: Manufacturer URL; ComponentLink1URL: http://www.analog.com/en/index.html; ComponentLink2Description: Datasheet; ComponentLink2URL: http://www.analog.com/static/imported-files/data_sheets/ADCMP580_581_582.pdf; ComponentLink3Description: Package Specification; ComponentLink3URL: http://www.analog.com/static/imported-files/packages/PKG_PDF/LFCSP(CP)/CP_16_3.pdf; ComponentLink4Description: URL Link1; ComponentLink4URL: Product URL:http://www.analog.com/en/special-linear-functions/comparators/adcmp582/products/product.html
footprint ADI-CP-16-3_N (QFN, 16-Leads, Body 3x3mm, Pitch 0.5mm, Thermal Pad 1.5x1.5mm, IPC Medium Density)
footprint ADI-CP-16-3_L (QFN, 16-Leads, Body 3x3mm, Pitch 0.5mm, Thermal Pad 1.5x1.5mm, IPC High Density)
footprint ADI-CP-16-3_M (QFN, 16-Leads, Body 3x3mm, Pitch 0.5mm, Thermal Pad 1.5x1.5mm, IPC Low Density)
footprint ADI-CP-16-2_L (QFN, 16-Leads, Body 3x3mm, Pitch 0.5mm, Thermal Pad 1.3x1.3mm, IPC High Density)
footprint ADI-CP-16-2_M (QFN, 16-Leads, Body 3x3mm, Pitch 0.5mm, Thermal Pad 1.3x1.3mm, IPC Low Density)
footprint ADI-CP-16-2_N (QFN, 16-Leads, Body 3x3mm, Pitch 0.5mm, Thermal Pad 1.3x1.3mm, IPC Medium Density)
part A pins: 1 VTP, 2 VP (in), 3 VN (in), 4 VTN, 6 ~{LE} (in), 7 LE (in), 10 ~{Q} (oe), 11 Q (oe), 14 HYS (in)
part B pins: 5 VCCI (power) "Positive Supply Voltage.", 8 VTT (power) "Termination Return Pin for the LE/L\E\ Input Pins. For the ADCMP582 (PECL output stage), this pin should be connected to the VCCO -2 V termination potential.", 9 VCCO (power) "Digital Ground Pin/Positive Logic Power Supply Terminal. For the ADCMP582, this pin should be connected to the positive logic power VCCO supply.", 12 VCCO (power) "Digital Ground Pin/Positive Logic Power Supply Terminal. For the ADCMP582, this pin should be connected to the positive logic power VCCO supply.", 13 VEE (power) "Negative Power Supply.", 15 GND (power) "Analog Ground.", 16 VCCI (power) "Positive Supply Voltage.", 17 EP "The metallic back surface of the package is not electrically connected to any part of the circuit. It can be left floating for optimal electrical isolation between the package handle and the substrate of the die. It can also (See Datasheet)"

## ADCMP600BKSZ-R2
designator U?
Rail-to-Rail, Very Fast, Single-Supply TTL / CMOS Comparator, 2.5 to 5.5 V, 3.5 ns Delay, Industrial, 5-pin SOT23 (KS-5), Reel; Manufacturer: Analog Devices; PartNumber: ADCMP600BKSZ-R2; Input Range (V): -0.2 to VCC+0.2; Supply Current: 3mA; DatasheetVersion: Rev. A; PackageVersion: 072809-A, 07/2009; PackageReference: KS-5; PackageDescription: 5-Pin Thin Shrink Small Outline Transistor Package, Body 2 x 1.25 mm, Pitch 0.65 mm; Supplier 1: Digi-Key; Supplier Part Number 1: ADCMP600BKSZ-R2-ND; Supplier 2: Farnell; Supplier Part Number 2: 2376809; Supplier 3: Mouser; Supplier Part Number 3: 584-ADCMP600BKSZ-R2; Packing: Reel; Voltage Supply (V): 2.5 to 5.5; Mounting Technology: Surface Mount; Code_JEDEC: MO-203-AA; ComponentLink1Description: Manufacturer URL; ComponentLink1URL: http://www.analog.com/en/index.html; ComponentLink2Description: Datasheet; ComponentLink2URL: http://www.analog.com/static/imported-files/data_sheets/ADCMP600_601_602.pdf; ComponentLink3Description: Package Specification; ComponentLink3URL: http://www.analog.com/static/imported-files/packages/PKG_PDF/SC70(KS)/KS_5.pdf; ComponentLink4Description: URL Link1; ComponentLink4URL: Product URL:http://www.analog.com/en/special-linear-functions/comparators/adcmp600/products/product.html
footprint ADI-KS-5_N (SOT23, 5-Leads, Body 2x1.25mm, Pitch 0.65mm, IPC Medium Density)
footprint ADI-KS-5_L (SOT23, 5-Leads, Body 2x1.25mm, Pitch 0.65mm, IPC High Density)
footprint ADI-KS-5_M (SOT23, 5-Leads, Body 2x1.25mm, Pitch 0.65mm, IPC Low Density)
pins: 1 Q (out) "Noninverting Output. Q is at logic high if the analog voltage at the noninverting input, VP, is greater than the analog voltage at the inverting input, VN.", 2 GND (power) "Negative Supply Voltage.", 3 VP (in) "Noninverting Analog Input.", 4 VN (in) "Inverting Analog Input.", 5 VCCI/VCCO (power) "Input Section Supply/Output Section Supply. Shared pin."

## ADCMP600BKSZ-REEL7
designator U?
Rail-to-Rail, Very Fast, Single-Supply TTL / CMOS Comparator, 2.5 to 5.5 V, 3.5 ns Delay, Industrial, 5-pin SOT23 (KS-5), Reel; Manufacturer: Analog Devices; PartNumber: ADCMP600BKSZ-REEL7; Input Range (V): -0.2 to VCC+0.2; Supply Current: 3mA; DatasheetVersion: Rev. A; PackageVersion: 072809-A, 07/2009; PackageReference: KS-5; PackageDescription: 5-Pin Thin Shrink Small Outline Transistor Package, Body 2 x 1.25 mm, Pitch 0.65 mm; Supplier 1: Digi-Key; Supplier Part Number 1: ADCMP600BKSZ-REEL7TR-ND; Supplier 2: Digi-Key; Supplier Part Number 2: ADCMP600BKSZ-REEL7CT-ND; Supplier 3: Digi-Key; Supplier Part Number 3: ADCMP600BKSZ-REEL7DKR-ND; Supplier 4: Mouser; Supplier Part Number 4: 584-ADCMP600BKSZR7; Packing: Reel; Voltage Supply (V): 2.5 to 5.5; Mounting Technology: Surface Mount; Code_JEDEC: MO-203-AA; ComponentLink1Description: Manufacturer URL; ComponentLink1URL: http://www.analog.com/en/index.html; ComponentLink2Description: Datasheet; ComponentLink2URL: http://www.analog.com/static/imported-files/data_sheets/ADCMP600_601_602.pdf; ComponentLink3Description: Package Specification; ComponentLink3URL: http://www.analog.com/static/imported-files/packages/PKG_PDF/SC70(KS)/KS_5.pdf; ComponentLink4Description: URL Link1; ComponentLink4URL: Product URL:http://www.analog.com/en/special-linear-functions/comparators/adcmp600/products/product.html
footprint ADI-KS-5_N (SOT23, 5-Leads, Body 2x1.25mm, Pitch 0.65mm, IPC Medium Density)
footprint ADI-KS-5_L (SOT23, 5-Leads, Body 2x1.25mm, Pitch 0.65mm, IPC High Density)
footprint ADI-KS-5_M (SOT23, 5-Leads, Body 2x1.25mm, Pitch 0.65mm, IPC Low Density)
pins: 1 Q (out) "Noninverting Output. Q is at logic high if the analog voltage at the noninverting input, VP, is greater than the analog voltage at the inverting input, VN.", 2 GND (power) "Negative Supply Voltage.", 3 VP (in) "Noninverting Analog Input.", 4 VN (in) "Inverting Analog Input.", 5 VCCI/VCCO (power) "Input Section Supply/Output Section Supply. Shared pin."

## ADCMP600BKSZ-RL
designator U?
Rail-to-Rail, Very Fast, Single-Supply TTL / CMOS Comparator, 2.5 to 5.5 V, 3.5 ns Delay, Industrial, 5-pin SOT23 (KS-5), Reel; Manufacturer: Analog Devices; PartNumber: ADCMP600BKSZ-RL; Input Range (V): -0.2 to VCC+0.2; Supply Current: 3mA; DatasheetVersion: Rev. A; PackageVersion: 072809-A, 07/2009; PackageReference: KS-5; PackageDescription: 5-Pin Thin Shrink Small Outline Transistor Package, Body 2 x 1.25 mm, Pitch 0.65 mm; Supplier 1: Digi-Key; Supplier Part Number 1: ADCMP600BKSZ-RL-ND; Supplier 2: Mouser; Supplier Part Number 2: 584-ADCMP600BKSZ-R; Packing: Reel; Voltage Supply (V): 2.5 to 5.5; Mounting Technology: Surface Mount; Code_JEDEC: MO-203-AA; ComponentLink1Description: Manufacturer URL; ComponentLink1URL: http://www.analog.com/en/index.html; ComponentLink2Description: Datasheet; ComponentLink2URL: http://www.analog.com/static/imported-files/data_sheets/ADCMP600_601_602.pdf; ComponentLink3Description: Package Specification; ComponentLink3URL: http://www.analog.com/static/imported-files/packages/PKG_PDF/SC70(KS)/KS_5.pdf; ComponentLink4Description: URL Link1; ComponentLink4URL: Product URL:http://www.analog.com/en/special-linear-functions/comparators/adcmp600/products/product.html
footprint ADI-KS-5_N (SOT23, 5-Leads, Body 2x1.25mm, Pitch 0.65mm, IPC Medium Density)
footprint ADI-KS-5_L (SOT23, 5-Leads, Body 2x1.25mm, Pitch 0.65mm, IPC High Density)
footprint ADI-KS-5_M (SOT23, 5-Leads, Body 2x1.25mm, Pitch 0.65mm, IPC Low Density)
pins: 1 Q (out) "Noninverting Output. Q is at logic high if the analog voltage at the noninverting input, VP, is greater than the analog voltage at the inverting input, VN.", 2 GND (power) "Negative Supply Voltage.", 3 VP (in) "Noninverting Analog Input.", 4 VN (in) "Inverting Analog Input.", 5 VCCI/VCCO (power) "Input Section Supply/Output Section Supply. Shared pin."

## ADCMP600BRJZ-R2
designator U?
Rail-to-Rail, Very Fast, Single-Supply TTL / CMOS Comparator, 2.5 to 5.5 V, 3.5 ns Delay, Industrial, 5-pin SOT23 (RJ-5), Reel; Manufacturer: Analog Devices; PartNumber: ADCMP600BRJZ-R2; Input Range (V): -0.2 to VCC+0.2; Supply Current: 3 to 3.5mA; DatasheetVersion: Rev. A; PackageVersion: 121608-A, 12/2008; PackageReference: RJ-5; PackageDescription: 5-Pin Small Outline Transistor Package, Body 2.9 x 1.6 mm, Pitch 0.95 mm; Supplier 1: Digi-Key; Supplier Part Number 1: ADCMP600BRJZ-R2TR-ND; Supplier 2: Digi-Key; Supplier Part Number 2: ADCMP600BRJZ-R2CT-ND; Supplier 3: Digi-Key; Supplier Part Number 3: ADCMP600BRJZ-R2DKR-ND; Supplier 4: Farnell; Supplier Part Number 4: 1472347; Supplier 5: Mouser; Supplier Part Number 5: 584-ADCMP600BRJZ-R2; Packing: Reel; Voltage Supply (V): 2.5 to 5.5; Mounting Technology: Surface Mount; Code_JEDEC: MO-178-AA; ComponentLink1Description: Manufacturer URL; ComponentLink1URL: http://www.analog.com/en/index.html; ComponentLink2Description: Datasheet; ComponentLink2URL: http://www.analog.com/static/imported-files/data_sheets/ADCMP600_601_602.pdf; ComponentLink3Description: Package Specification; ComponentLink3URL: http://www.analog.com/static/imported-files/packages/PKG_PDF/SOT-23(RJ)/RJ_5.pdf; ComponentLink4Description: URL Link1; ComponentLink4URL: Product URL:http://www.analog.com/en/special-linear-functions/comparators/adcmp600/products/product.html
footprint ADI-RJ-5_N (SOT-23, 5-Leads, Body 2.9x1.6mm, Pitch 0.95mm, IPC Medium Density)
footprint ADI-RJ-5_L (SOT-23, 5-Leads, Body 2.9x1.6mm, Pitch 0.95mm, IPC High Density)
footprint ADI-RJ-5_M (SOT-23, 5-Leads, Body 2.9x1.6mm, Pitch 0.95mm, IPC Low Density)
pins: 1 Q (out) "Noninverting Output. Q is at logic high if the analog voltage at the noninverting input, VP, is greater than the analog voltage at the inverting input, VN.", 2 GND (power) "Negative Supply Voltage.", 3 VP (in) "Noninverting Analog Input.", 4 VN (in) "Inverting Analog Input.", 5 VCCI/VCCO (power) "Input Section Supply/Output Section Supply. Shared pin."

## ADCMP600BRJZ-REEL7
designator U?
Rail-to-Rail, Very Fast, Single-Supply TTL / CMOS Comparator, 2.5 to 5.5 V, 3.5 ns Delay, Industrial, 5-pin SOT23 (RJ-5), Reel; Manufacturer: Analog Devices; PartNumber: ADCMP600BRJZ-REEL7; Input Range (V): -0.2 to VCC+0.2; Supply Current: 3 to 3.5mA; DatasheetVersion: Rev. A; PackageVersion: 121608-A, 12/2008; PackageReference: RJ-5; PackageDescription: 5-Pin Small Outline Transistor Package, Body 2.9 x 1.6 mm, Pitch 0.95 mm; Supplier 1: Digi-Key; Supplier Part Number 1: ADCMP600BRJZ-REEL7TR-ND; Supplier 2: Digi-Key; Supplier Part Number 2: ADCMP600BRJZ-REEL7CT-ND; Supplier 3: Digi-Key; Supplier Part Number 3: ADCMP600BRJZ-REEL7DKR-ND; Supplier 4: Farnell; Supplier Part Number 4: 2376808; Supplier 5: Mouser; Supplier Part Number 5: 584-ADCMP600BRJZR7; Packing: Reel; Voltage Supply (V): 2.5 to 5.5; Mounting Technology: Surface Mount; Code_JEDEC: MO-178-AA; ComponentLink1Description: Manufacturer URL; ComponentLink1URL: http://www.analog.com/en/index.html; ComponentLink2Description: Datasheet; ComponentLink2URL: http://www.analog.com/static/imported-files/data_sheets/ADCMP600_601_602.pdf; ComponentLink3Description: Package Specification; ComponentLink3URL: http://www.analog.com/static/imported-files/packages/PKG_PDF/SOT-23(RJ)/RJ_5.pdf; ComponentLink4Description: URL Link1; ComponentLink4URL: Product URL:http://www.analog.com/en/special-linear-functions/comparators/adcmp600/products/product.html
footprint ADI-RJ-5_N (SOT-23, 5-Leads, Body 2.9x1.6mm, Pitch 0.95mm, IPC Medium Density)
footprint ADI-RJ-5_L (SOT-23, 5-Leads, Body 2.9x1.6mm, Pitch 0.95mm, IPC High Density)
footprint ADI-RJ-5_M (SOT-23, 5-Leads, Body 2.9x1.6mm, Pitch 0.95mm, IPC Low Density)
pins: 1 Q (out) "Noninverting Output. Q is at logic high if the analog voltage at the noninverting input, VP, is greater than the analog voltage at the inverting input, VN.", 2 GND (power) "Negative Supply Voltage.", 3 VP (in) "Noninverting Analog Input.", 4 VN (in) "Inverting Analog Input.", 5 VCCI/VCCO (power) "Input Section Supply/Output Section Supply. Shared pin."